# Altium schematic symbol library SCH - OPAMP - TI OPA2347EA3K.SCHLIB: 1 symbol
Pins are listed as number, name and electrical type; pins without a type are passive.

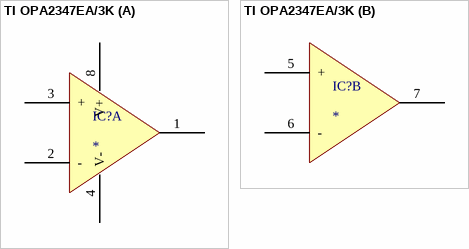
[diagram p0: symbol TI OPA2347EA/3K]

## TI OPA2347EA/3K
designator IC?
part A pins: 1 OUTA, 2 -, 3 +, 4 V-, 8 V+
part B pins: 5 +, 6 -, 7 OUTB